# Altium footprint library PowerChip.PcbLib: 9 footprints
Each footprint in its own frame and in the unit in brackets; x right, y up, seen from the top. Pads: shape width x height; smd on the part's side, far side on the other; paste and mask are expansions set on the pad; w line width, h text height; cw(c..) or ccw(c..) is an arc to the next point about the centre after c.
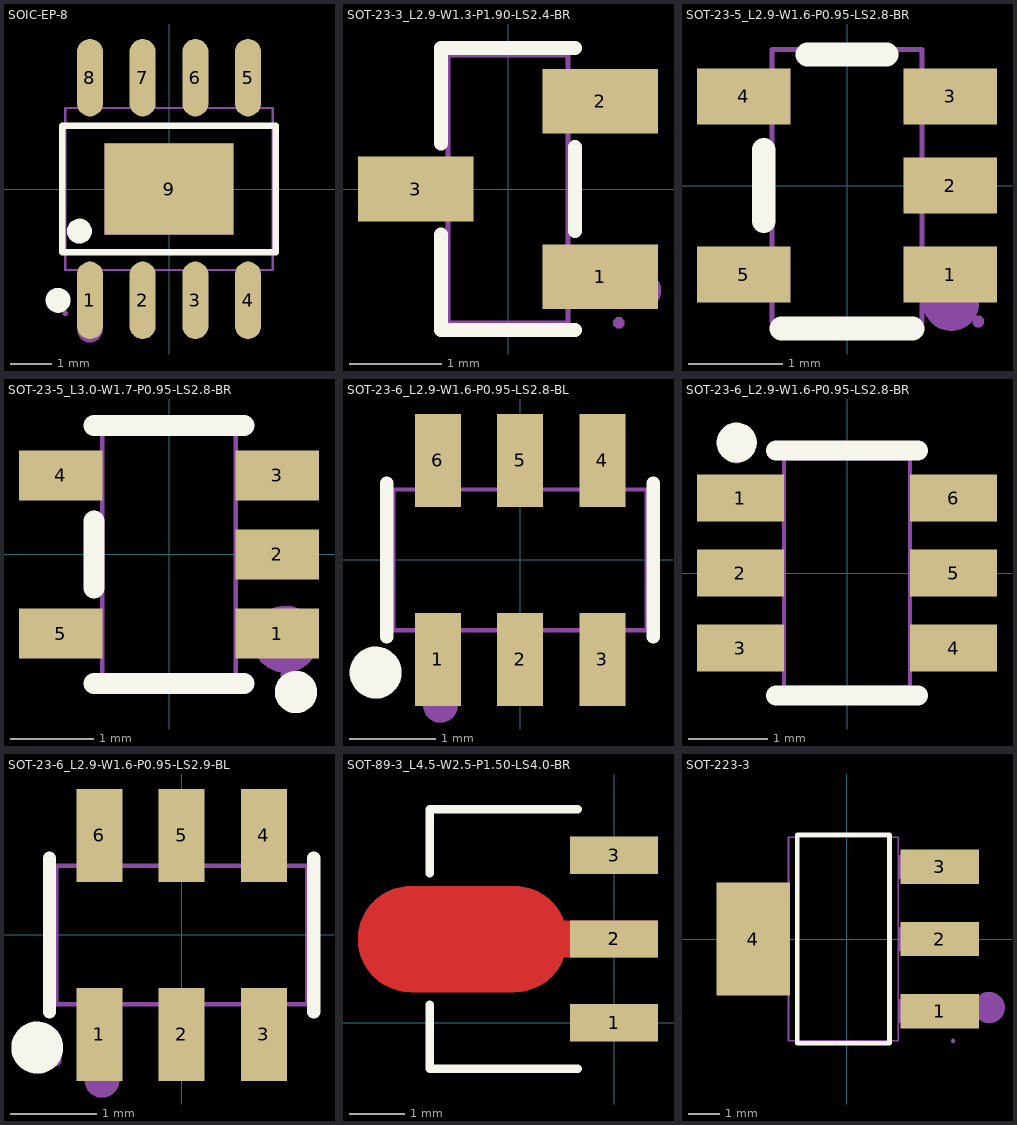
[diagram p0: the footprints below, top view; thin cyan lines are the x and y axes]

## SOIC-EP-8 [mm] "MP2307"
pads (9):
  oval 0.63x1.865 smd mask+0.051: 1(-1.905,-2.682) 2(-0.635,-2.682) 3(0.635,-2.682) 4(1.905,-2.682) 5(1.905,2.682) 6(0.635,2.682) 7(-0.635,2.682) 8(-1.905,2.682)
  rect 3.1x2.2 smd mask+0.05: 9(0,0)
Top Overlay:
  circle w0.3: c-2.159,-1.016 r0.15
  circle w0.3: c-2.672,-2.682 r0.15
  lines w0.152: -2.576,-1.521 2.576,-1.521 2.576,1.521 -2.576,1.521 -2.576,-1.521
Mechanical 6:
  circle w0.3: c-1.905,-3.4 r0.15
Mechanical 15:
  region: -1.55,1.1 1.55,1.1 1.55,-1.1 -1.55,-1.1
  region: 1.695,1.94 1.695,2.175 2.115,2.175 2.115,1.94
  region: 1.695,2.165 1.695,3 2.115,3 2.115,2.165
  region: 0.425,1.94 0.425,2.175 0.845,2.175 0.845,1.94
  region: 0.425,2.165 0.425,3 0.845,3 0.845,2.165
  region: -0.845,1.94 -0.845,2.175 -0.425,2.175 -0.425,1.94
  region: -0.845,2.165 -0.845,3 -0.425,3 -0.425,2.165
  region: -2.115,1.94 -2.115,2.175 -1.695,2.175 -1.695,1.94
  region: -2.115,2.165 -2.115,3 -1.695,3 -1.695,2.165
  region: 1.695,-2.175 1.695,-1.94 2.115,-1.94 2.115,-2.175
  region: 1.695,-3 1.695,-2.165 2.115,-2.165 2.115,-3
  region: 0.425,-2.175 0.425,-1.94 0.845,-1.94 0.845,-2.175
  region: 0.425,-3 0.425,-2.165 0.845,-2.165 0.845,-3
  region: -0.845,-2.175 -0.845,-1.94 -0.425,-1.94 -0.425,-2.175
  region: -0.845,-3 -0.845,-2.165 -0.425,-2.165 -0.425,-3
  region: -2.115,-2.175 -2.115,-1.94 -1.695,-1.94 -1.695,-2.175
  region: -2.115,-3 -2.115,-2.165 -1.695,-2.165 -1.695,-3
  region: -2.44,-3 -2.44,-2.975 -2.475,-2.94 -2.525,-2.94 -2.56,-2.975 -2.56,-3 -2.56,-3.025 -2.525,-3.06 -2.475,-3.06 -2.44,-3.025
  lines w0.051: -2.5,-1.95 2.5,-1.95 2.5,1.95 -2.5,1.95 -2.5,-1.95
3D body "3D_PCB1_2023-02-22 (1).step": height 1.56, standoff 0, extent -2.436,-3 2.464,3

## SOT-23-3_L2.9-W1.3-P1.90-LS2.4-BR [mm]
pads (3):
  rect 1.25x0.7 smd: 1(1,-0.95) 2(1,0.95) 3(-1,0)
Top Overlay:
  lines w0.152: -0.726,-0.495 -0.726,-1.526 0.726,-1.526 ; -0.726,0.495 -0.726,1.526 0.726,1.526 ; 0.726,-0.455 0.726,0.455
Mechanical 6:
  circle w0.2: c1.46,-1.1 r0.1
Mechanical 15:
  region: -1.2,-0.215 -1.2,0.215 -0.9,0.215 -0.9,-0.215
  region: -0.91,-0.215 -0.91,0.215 -0.64,0.215 -0.64,-0.215
  region: 0.9,-1.165 0.9,-0.735 1.2,-0.735 1.2,-1.165
  region: 0.64,-1.165 0.64,-0.735 0.91,-0.735 0.91,-1.165
  region: 0.9,0.735 0.9,1.165 1.2,1.165 1.2,0.735
  region: 0.64,0.735 0.64,1.165 0.91,1.165 0.91,0.735
  region: 1.26,-1.45 1.259,-1.426 1.224,-1.392 1.176,-1.392 1.141,-1.426 1.14,-1.45 1.141,-1.474 1.176,-1.508 1.224,-1.508 1.259,-1.474
  lines w0.051: -0.65,-1.45 0.65,-1.45 0.65,1.45 -0.65,1.45 -0.65,-1.45
3D body "3d_pcb1_2024-04-08_asm.stp": height 1.05, standoff 0, extent -1.27,-1.447 1.23,1.447

## SOT-23-5_L2.9-W1.6-P0.95-LS2.8-BR [mm]
pads (5):
  rect 1x0.6 smd paste+0 mask+0.05: 1(1.1,-0.95) 2(1.1,0) 3(1.1,0.95) 4(-1.1,0.95) 5(-1.1,-0.95)
Top Overlay:
  lines w0.254: -0.889,-0.381 -0.889,0.381 ; -0.699,-1.524 0.698,-1.524 ; -0.422,1.397 0.422,1.397
Mechanical 6:
  circle w0.3: c1.11,-1.25 r0.15
Mechanical 15:
  region: 0.96,-0.2 0.79,-0.2 0.79,0.2 0.96,0.2
  region: 1.4,-0.2 0.95,-0.2 0.95,0.2 1.4,0.2
  region: 0.96,0.75 0.79,0.75 0.79,1.15 0.96,1.15
  region: 1.4,0.75 0.95,0.75 0.95,1.15 1.4,1.15
  region: 0.96,-1.15 0.79,-1.15 0.79,-0.75 0.96,-0.75
  region: 1.4,-1.15 0.95,-1.15 0.95,-0.75 1.4,-0.75
  region: -0.79,0.75 -0.96,0.75 -0.96,1.15 -0.79,1.15
  region: -0.95,0.75 -1.4,0.75 -1.4,1.15 -0.95,1.15
  region: -0.79,-1.15 -0.96,-1.15 -0.96,-0.75 -0.79,-0.75
  region: -0.95,-1.15 -1.4,-1.15 -1.4,-0.75 -0.95,-0.75
  region: 1.46,-1.45 1.46,-1.425 1.425,-1.39 1.375,-1.39 1.34,-1.425 1.34,-1.45 1.34,-1.475 1.375,-1.51 1.425,-1.51 1.46,-1.475
  lines w0.051: -0.8,-1.45 -0.8,1.45 0.8,1.45 0.8,-1.45 -0.8,-1.45
3D body "3d_pcb1_2023-11-24_asm.stp": height 1.2, standoff 0, extent -1.445,-1.392 1.448,1.392

## SOT-23-5_L3.0-W1.7-P0.95-LS2.8-BR [mm]
pads (5):
  rect 1x0.6 smd: 1(1.3,-0.95) 2(1.3,0) 3(1.3,0.95) 4(-1.3,0.95) 5(-1.3,-0.95)
Top Overlay:
  circle w0.254: c1.524,-1.651 r0.127
  lines w0.254: -0.9,-1.55 0.9,-1.55 ; -0.9,-0.4 -0.9,0.4 ; -0.9,1.55 0.9,1.55
Mechanical 6:
  circle w0.4: c1.397,-1.016 r0.2
Mechanical 15:
  region: -1.4,-1.15 -1.4,-0.75 -0.95,-0.75 -0.95,-1.15
  region: -0.96,-1.15 -0.96,-0.75 -0.79,-0.75 -0.79,-1.15
  region: -1.4,0.75 -1.4,1.15 -0.95,1.15 -0.95,0.75
  region: -0.96,0.75 -0.96,1.15 -0.79,1.15 -0.79,0.75
  region: 0.95,0.75 0.95,1.15 1.4,1.15 1.4,0.75
  region: 0.79,0.75 0.79,1.15 0.96,1.15 0.96,0.75
  region: 0.95,-0.2 0.95,0.2 1.4,0.2 1.4,-0.2
  region: 0.79,-0.2 0.79,0.2 0.96,0.2 0.96,-0.2
  region: 0.95,-1.15 0.95,-0.75 1.4,-0.75 1.4,-1.15
  region: 0.79,-1.15 0.79,-0.75 0.96,-0.75 0.96,-1.15
  region: 1.46,-1.45 1.46,-1.425 1.425,-1.39 1.375,-1.39 1.34,-1.425 1.34,-1.45 1.34,-1.475 1.375,-1.51 1.425,-1.51 1.46,-1.475
  lines w0.051: -0.8,-1.45 -0.8,1.45 0.8,1.45 0.8,-1.45 -0.8,-1.45
3D body "3d_pcb1_2023-11-24_asm.stp": height 1.2, standoff 0, extent -1.445,-1.392 1.448,1.392

## SOT-23-6_L2.9-W1.6-P0.95-LS2.8-BL [mm]
pads (6):
  rect 0.532x1.072 smd: 1(-0.95,-1.149) 2(0,-1.149) 3(0.95,-1.149) 4(0.95,1.149) 5(0,1.149) 6(-0.95,1.149)
Top Overlay:
  circle w0.3: c-1.668,-1.301 r0.15
  lines w0.152: -1.539,-0.889 -1.539,0.889 ; 1.539,-0.889 1.539,0.889
Mechanical 6:
  circle w0.2: c-0.92,-1.68 r0.1
Mechanical 15:
  region: -1.165,0.935 -0.735,0.935 -0.735,0.803 -1.165,0.803
  region: -1.165,0.925 -0.735,0.925 -0.735,1.4 -1.165,1.4
  region: -0.215,0.935 0.215,0.935 0.215,0.803 -0.215,0.803
  region: -0.215,0.925 0.215,0.925 0.215,1.4 -0.215,1.4
  region: 0.735,0.935 1.165,0.935 1.165,0.803 0.735,0.803
  region: 0.735,0.925 1.165,0.925 1.165,1.4 0.735,1.4
  region: 0.735,-0.803 1.165,-0.803 1.165,-0.935 0.735,-0.935
  region: 0.735,-0.925 1.165,-0.925 1.165,-1.4 0.735,-1.4
  region: -0.215,-0.803 0.215,-0.803 0.215,-0.935 -0.215,-0.935
  region: -0.215,-0.925 0.215,-0.925 0.215,-1.4 -0.215,-1.4
  region: -1.165,-0.803 -0.735,-0.803 -0.735,-0.935 -1.165,-0.935
  region: -1.165,-0.925 -0.735,-0.925 -0.735,-1.4 -1.165,-1.4
  region: -1.403,-1.4 -1.403,-1.375 -1.438,-1.34 -1.488,-1.34 -1.523,-1.375 -1.523,-1.4 -1.523,-1.425 -1.488,-1.46 -1.438,-1.46 -1.403,-1.425
  lines w0.051: -1.463,-0.813 -1.463,0.813 1.463,0.813 1.463,-0.813 -1.463,-0.813
3D body "3d_pcb1_2023-08-30_asm.stp": height 1.64, standoff 0, extent -1.432,-1.396 1.448,1.396

## SOT-23-6_L2.9-W1.6-P0.95-LS2.8-BR [mm]
pads (6):
  rect 1.1x0.6 smd paste+0 mask+0.051: 1(-1.35,0.95) 2(-1.35,0) 3(-1.35,-0.95) 4(1.35,-0.95) 5(1.35,0) 6(1.35,0.95)
Top Overlay:
  circle w0.254: c-1.397,1.651 r0.127
  lines w0.254: -0.9,-1.55 0.9,-1.55 ; -0.9,1.55 0.9,1.55
Mechanical 6:
  circle w0.2: c-1.4,0.95 r0.1
Mechanical 15:
  region: -0.935,-1.165 -0.935,-0.735 -0.79,-0.735 -0.79,-1.165
  region: -0.935,-0.215 -0.935,0.215 -0.79,0.215 -0.79,-0.215
  region: -0.935,0.735 -0.935,1.165 -0.79,1.165 -0.79,0.735
  region: 0.935,1.165 0.935,0.735 0.79,0.735 0.79,1.165
  region: 0.935,0.215 0.935,-0.215 0.79,-0.215 0.79,0.215
  region: -0.925,1.165 -0.925,0.735 -1.4,0.735 -1.4,1.165
  region: -0.925,0.215 -0.925,-0.215 -1.4,-0.215 -1.4,0.215
  region: -0.925,-0.735 -0.925,-1.165 -1.4,-1.165 -1.4,-0.735
  region: 0.935,-0.735 0.935,-1.165 0.79,-1.165 0.79,-0.735
  region: 0.925,-0.735 0.925,-1.165 1.4,-1.165 1.4,-0.735
  region: 0.925,0.215 0.925,-0.215 1.4,-0.215 1.4,0.215
  region: 0.925,1.165 0.925,0.735 1.4,0.735 1.4,1.165
  region: -1.46,1.45 -1.46,1.425 -1.425,1.39 -1.375,1.39 -1.34,1.425 -1.34,1.45 -1.34,1.475 -1.375,1.51 -1.425,1.51 -1.46,1.475
  lines w0.051: -0.8,-1.45 -0.8,1.45 0.8,1.45 0.8,-1.45 -0.8,-1.45
3D body "3d_pcb1_2023-08-30_asm.stp": height 1.64, standoff 0, extent -1.396,-1.448 1.396,1.432

## SOT-23-6_L2.9-W1.6-P0.95-LS2.9-BL [mm]
pads (6):
  rect 0.532x1.072 smd: 1(-0.95,-1.149) 2(0,-1.149) 3(0.95,-1.149) 4(0.95,1.149) 5(0,1.149) 6(-0.95,1.149)
Top Overlay:
  circle w0.3: c-1.668,-1.301 r0.15
  lines w0.152: -1.526,-0.889 -1.526,0.889 ; 1.526,-0.889 1.526,0.889
Mechanical 6:
  circle w0.2: c-0.92,-1.68 r0.1
Mechanical 15:
  region: -1.15,1 -1.15,1.45 -0.75,1.45 -0.75,1
  region: -1.15,0.79 -1.15,1.01 -0.75,1.01 -0.75,0.79
  region: -0.2,1 -0.2,1.45 0.2,1.45 0.2,1
  region: -0.2,0.79 -0.2,1.01 0.2,1.01 0.2,0.79
  region: 0.75,1 0.75,1.45 1.15,1.45 1.15,1
  region: 0.75,0.79 0.75,1.01 1.15,1.01 1.15,0.79
  region: 0.75,-1.45 0.75,-1 1.15,-1 1.15,-1.45
  region: 0.75,-1.01 0.75,-0.79 1.15,-0.79 1.15,-1.01
  region: -0.2,-1.45 -0.2,-1 0.2,-1 0.2,-1.45
  region: -0.2,-1.01 -0.2,-0.79 0.2,-0.79 0.2,-1.01
  region: -1.15,-1.45 -1.15,-1 -0.75,-1 -0.75,-1.45
  region: -1.15,-1.01 -1.15,-0.79 -0.75,-0.79 -0.75,-1.01
  region: -1.39,-1.45 -1.391,-1.426 -1.426,-1.391 -1.475,-1.391 -1.51,-1.426 -1.51,-1.45 -1.51,-1.475 -1.475,-1.509 -1.426,-1.509 -1.391,-1.475
  lines w0.051: -1.45,-0.8 -1.45,0.8 1.45,0.8 1.45,-0.8 -1.45,-0.8
3D body "3d_pcb1_2024-04-10_asm.stp": height 1.15, standoff 0, extent -1.452,-1.45 1.448,1.45

## SOT-89-3_L4.5-W2.5-P1.50-LS4.0-BR [mm]
pads (3):
  rect 1.575x0.672 smd: 1(0,0) 2(0,1.5) 3(0,3)
Top Layer:
  region: -3.644,2.448 -1.79,2.448 -1.745,2.447 -1.701,2.444 -1.657,2.439 -1.613,2.432 -1.569,2.422 -1.526,2.411 -1.484,2.398 -1.442,2.382 -1.401,2.365 -1.361,2.346 -1.321,2.325 -1.283,2.302 -1.246,2.277 -1.21,2.251 -1.176,2.223 -1.142,2.193 -1.11,2.162 -1.08,2.13 -1.051,2.096 -1.024,2.06 -0.998,2.024 -0.975,1.986 -0.953,1.947 -0.933,1.908 -0.914,1.828 0.787,1.828 0.787,1.168 -0.914,1.168 -0.933,1.089 -0.953,1.049 -0.975,1.011 -0.998,0.973 -1.024,0.936 -1.051,0.901 -1.08,0.867 -1.11,0.835 -1.142,0.803 -1.176,0.774 -1.21,0.746 -1.246,0.719 -1.283,0.695 -1.321,0.672 -1.361,0.651 -1.401,0.632 -1.442,0.614 -1.484,0.599 -1.526,0.586 -1.569,0.574 -1.613,0.565 -1.657,0.558 -1.701,0.553 -1.745,0.549 -1.79,0.548 -3.644,0.548 -3.689,0.549 -3.733,0.553 -3.777,0.558 -3.821,0.565 -3.865,0.574 -3.908,0.586 -3.95,0.599 -3.992,0.614 -4.033,0.632 -4.073,0.651 -4.113,0.672 -4.151,0.695 -4.188,0.719 -4.224,0.746 -4.259,0.774 -4.292,0.803 -4.324,0.835 -4.354,0.867 -4.383,0.901 -4.41,0.936 -4.436,0.973 -4.459,1.011 -4.481,1.049 -4.501,1.089 -4.52,1.13 -4.536,1.171 -4.55,1.213 -4.563,1.256 -4.573,1.299 -4.581,1.343 -4.588,1.387 -4.592,1.432 -4.594,1.476 -4.594,1.521 -4.592,1.565 -4.588,1.609 -4.581,1.654 -4.573,1.697 -4.563,1.741 -4.55,1.783 -4.536,1.826 -4.52,1.867 -4.501,1.908 -4.481,1.947 -4.459,1.986 -4.436,2.024 -4.41,2.06 -4.383,2.096 -4.354,2.13 -4.324,2.162 -4.292,2.193 -4.259,2.223 -4.224,2.251 -4.188,2.277 -4.151,2.302 -4.113,2.325 -4.073,2.346 -4.033,2.365 -3.992,2.382 -3.95,2.398 -3.908,2.411 -3.865,2.422 -3.821,2.432 -3.777,2.439 -3.733,2.444 -3.689,2.447
Top Overlay:
  lines w0.152: -3.306,0.323 -3.306,-0.826 -0.654,-0.826 ; -3.306,2.677 -3.306,3.826 -0.654,3.826
Top Paste:
  region: -3.64,2.45 -1.785,2.45 -1.741,2.449 -1.696,2.446 -1.652,2.44 -1.608,2.433 -1.565,2.424 -1.522,2.412 -1.479,2.399 -1.437,2.384 -1.396,2.366 -1.356,2.347 -1.317,2.326 -1.279,2.303 -1.241,2.279 -1.206,2.252 -1.171,2.224 -1.138,2.195 -1.106,2.164 -1.075,2.131 -1.047,2.097 -1.019,2.062 -0.994,2.025 -0.97,1.987 -0.948,1.949 -0.928,1.909 -0.91,1.83 0.788,1.83 0.788,1.17 -0.91,1.17 -0.928,1.09 -0.948,1.051 -0.97,1.012 -0.994,0.974 -1.019,0.938 -1.047,0.902 -1.075,0.868 -1.106,0.836 -1.138,0.805 -1.171,0.775 -1.206,0.747 -1.241,0.721 -1.279,0.696 -1.317,0.673 -1.356,0.652 -1.396,0.633 -1.437,0.616 -1.479,0.6 -1.522,0.587 -1.565,0.576 -1.608,0.566 -1.652,0.559 -1.696,0.554 -1.741,0.551 -1.785,0.55 -3.64,0.55 -3.684,0.551 -3.728,0.554 -3.773,0.559 -3.817,0.566 -3.86,0.576 -3.903,0.587 -3.946,0.6 -3.988,0.616 -4.029,0.633 -4.069,0.652 -4.108,0.673 -4.146,0.696 -4.183,0.721 -4.219,0.747 -4.254,0.775 -4.287,0.805 -4.319,0.836 -4.349,0.868 -4.378,0.902 -4.405,0.938 -4.431,0.974 -4.455,1.012 -4.477,1.051 -4.497,1.09 -4.515,1.131 -4.531,1.172 -4.546,1.215 -4.558,1.257 -4.568,1.301 -4.577,1.344 -4.583,1.389 -4.587,1.433 -4.589,1.477 -4.589,1.522 -4.587,1.566 -4.583,1.611 -4.577,1.655 -4.568,1.699 -4.558,1.742 -4.546,1.785 -4.531,1.827 -4.515,1.868 -4.497,1.909 -4.477,1.949 -4.455,1.987 -4.431,2.025 -4.405,2.062 -4.378,2.097 -4.349,2.131 -4.319,2.164 -4.287,2.195 -4.254,2.224 -4.219,2.252 -4.183,2.279 -4.146,2.303 -4.108,2.326 -4.069,2.347 -4.029,2.366 -3.988,2.384 -3.946,2.399 -3.903,2.412 -3.86,2.424 -3.817,2.433 -3.773,2.44 -3.728,2.446 -3.684,2.449
Top Solder:
  region: -3.64,2.45 -1.785,2.45 -1.741,2.449 -1.696,2.446 -1.652,2.44 -1.608,2.433 -1.565,2.424 -1.522,2.412 -1.479,2.399 -1.437,2.384 -1.396,2.366 -1.356,2.347 -1.317,2.326 -1.279,2.303 -1.241,2.279 -1.206,2.252 -1.171,2.224 -1.138,2.195 -1.106,2.164 -1.075,2.131 -1.047,2.097 -1.019,2.062 -0.994,2.025 -0.97,1.987 -0.948,1.949 -0.928,1.909 -0.91,1.83 0.788,1.83 0.788,1.17 -0.91,1.17 -0.928,1.09 -0.948,1.051 -0.97,1.012 -0.994,0.974 -1.019,0.938 -1.047,0.902 -1.075,0.868 -1.106,0.836 -1.138,0.805 -1.171,0.775 -1.206,0.747 -1.241,0.721 -1.279,0.696 -1.317,0.673 -1.356,0.652 -1.396,0.633 -1.437,0.616 -1.479,0.6 -1.522,0.587 -1.565,0.576 -1.608,0.566 -1.652,0.559 -1.696,0.554 -1.741,0.551 -1.785,0.55 -3.64,0.55 -3.684,0.551 -3.728,0.554 -3.773,0.559 -3.817,0.566 -3.86,0.576 -3.903,0.587 -3.946,0.6 -3.988,0.616 -4.029,0.633 -4.069,0.652 -4.108,0.673 -4.146,0.696 -4.183,0.721 -4.219,0.747 -4.254,0.775 -4.287,0.805 -4.319,0.836 -4.349,0.868 -4.378,0.902 -4.405,0.938 -4.431,0.974 -4.455,1.012 -4.477,1.051 -4.497,1.09 -4.515,1.131 -4.531,1.172 -4.546,1.215 -4.558,1.257 -4.568,1.301 -4.577,1.344 -4.583,1.389 -4.587,1.433 -4.589,1.477 -4.589,1.522 -4.587,1.566 -4.583,1.611 -4.577,1.655 -4.568,1.699 -4.558,1.742 -4.546,1.785 -4.531,1.827 -4.515,1.868 -4.497,1.909 -4.477,1.949 -4.455,1.987 -4.431,2.025 -4.405,2.062 -4.378,2.097 -4.349,2.131 -4.319,2.164 -4.287,2.195 -4.254,2.224 -4.219,2.252 -4.183,2.279 -4.146,2.303 -4.108,2.326 -4.069,2.347 -4.029,2.366 -3.988,2.384 -3.946,2.399 -3.903,2.412 -3.86,2.424 -3.817,2.433 -3.773,2.44 -3.728,2.446 -3.684,2.449
Mechanical 15:
  circle w0.3: c0.359,0 r0.15
3D body "3d_pcb1_2024-04-07_asm.stp": height 1.51, standoff 0, extent -3.778,-0.762 0.222,3.738

## SOT-223-3 [mm] "L6.5-W3.4-P2.30-LS7.0-BR"
pads (4):
  rect 2.5x1.1 smd mask+0.051: 1(2.97,-2.3) 2(2.97,0) 3(2.97,2.3)
  rect 2.34x3.6 smd mask+0.051: 4(-2.97,0)
Top Overlay:
  lines w0.152: -1.571,-3.326 1.371,-3.326 1.371,3.326 -1.571,3.326 -1.571,-3.326
Mechanical 6:
  circle w0.5: c4.552,-2.188 r0.25
Mechanical 15:
  region: -3.6,-1.5 -3.6,1.5 -2.85,1.5 -2.85,-1.5
  region: -2.86,-1.5 -2.86,1.5 -1.84,1.5 -1.84,-1.5
  region: 2.65,-2.675 2.65,-1.925 3.4,-1.925 3.4,-2.675
  region: 1.64,-2.675 1.64,-1.925 2.66,-1.925 2.66,-2.675
  region: 2.65,-0.375 2.65,0.375 3.4,0.375 3.4,-0.375
  region: 1.64,-0.375 1.64,0.375 2.66,0.375 2.66,-0.375
  region: 2.65,1.925 2.65,2.675 3.4,2.675 3.4,1.925
  region: 1.64,1.925 1.64,2.675 2.66,2.675 2.66,1.925
  region: 3.46,-3.25 3.46,-3.225 3.425,-3.19 3.375,-3.19 3.34,-3.225 3.34,-3.25 3.34,-3.275 3.375,-3.31 3.425,-3.31 3.46,-3.275
  lines w0.051: -1.85,-3.25 1.65,-3.25 1.65,3.25 -1.85,3.25 -1.85,-3.25
3D body "3D_PCB1_2023-08-29.step": height 1.75, standoff 0, extent -3.569,-3.254 3.54,3.246